# EAGLE library part DRV8839 (library jseng)
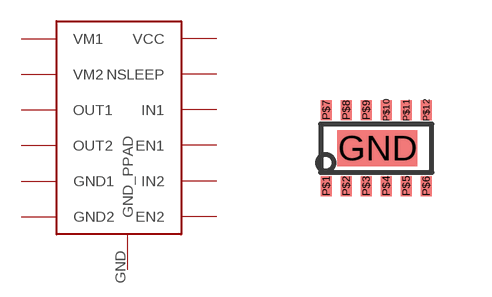
[diagram p5: symbol with the pads of PWSON-N12; footprint PWSON-N12]

Designator prefix -

## DRV8839  [PWSON-N12]
GND  GND_PPAD
P$1  VM1
P$2  VM2
P$3  OUT1
P$4  OUT2
P$5  GND1
P$6  GND2
P$7  VCC
P$8  NSLEEP
P$9  IN1
P$10  EN1
P$11  IN2
P$12  EN2

## Footprint PWSON-N12 (pad centres in mm)
smd 2 x 0.9: GND 0.82,0.63
smd 0.28 x 0.5: P$1 -0.46,-0.32; P$2 0.04,-0.32; P$3 0.54,-0.32; P$4 1.04,-0.32; P$5 1.54,-0.32; P$6 2.04,-0.32; P$7 -0.46,1.58; P$8 0.04,1.58; P$9 0.54,1.58; P$10 1.04,1.58; P$11 1.54,1.58; P$12 2.04,1.58